# EAGLE library part ATMEGA328PB-AU (library ATMEGA328PB-AU)
ATmega Series 20 MHz 32 KB Flash 2 KB SRAM 8-Bit Microcontroller - TQFP-32
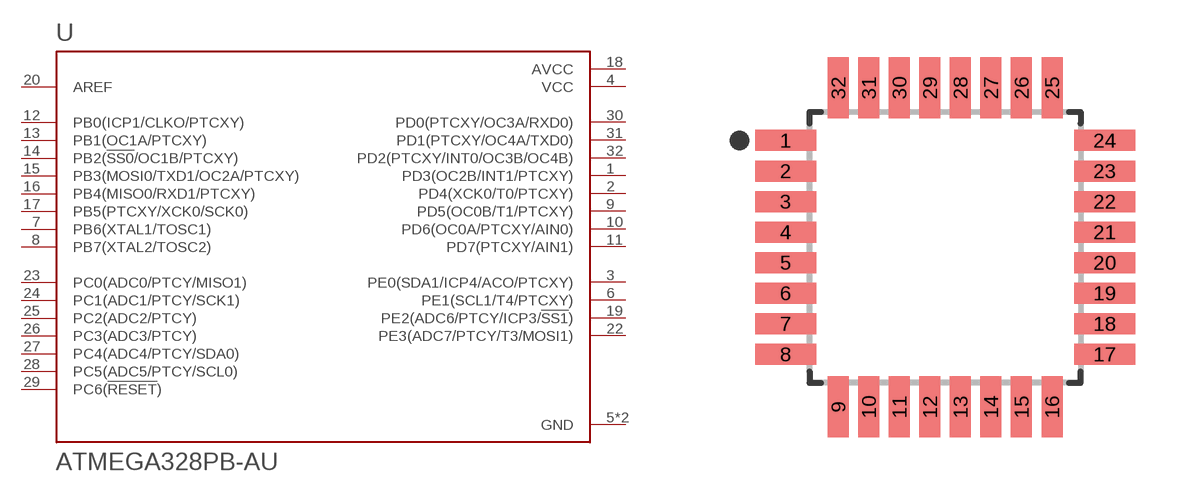
[diagram p0: symbol with the pads of QFP80P900X900X120-32N; footprint QFP80P900X900X120-32N]

Designator prefix U

## ATMEGA328PB-AU (Description: AVR microcontroller; EEPROM: 1024B; SRAM: 2kB; Flash: 32kB; TQFP32; Digi-Key_Part_Number: ATMEGA328PB-AU-ND; Digi-Key_Purchase_URL: https://www.digikey.com/product-detail/en/microchip-technology/ATMEGA328PB-AU/ATMEGA328PB-AU-ND/5638812?utm_source=snapeda&utm_medium=aggregator&utm_campaign=symbol; MF: Microchip; MP: ATMEGA328PB-AU; Package: TQFP-32 Microchip)  [QFP80P900X900X120-32N]
1  PD3(OC2B/INT1/PTCXY)
2  PD4(XCK0/T0/PTCXY)
3  PE0(SDA1/ICP4/ACO/PTCXY)
4  VCC  pwr
5  GND  pwr
6  PE1(SCL1/T4/PTCXY)
7  PB6(XTAL1/TOSC1)
8  PB7(XTAL2/TOSC2)
9  PD5(OC0B/T1/PTCXY)
10  PD6(OC0A/PTCXY/AIN0)
11  PD7(PTCXY/AIN1)
12  PB0(ICP1/CLKO/PTCXY)
13  PB1(OC1A/PTCXY)
14  PB2(!SS0!/OC1B/PTCXY)
15  PB3(MOSI0/TXD1/OC2A/PTCXY)
16  PB4(MISO0/RXD1/PTCXY)
17  PB5(PTCXY/XCK0/SCK0)
18  AVCC  pwr
19  PE2(ADC6/PTCY/ICP3/!SS1!)
20  AREF  in
21  GND  pwr
22  PE3(ADC7/PTCY/T3/MOSI1)
23  PC0(ADC0/PTCY/MISO1)
24  PC1(ADC1/PTCY/SCK1)
25  PC2(ADC2/PTCY)
26  PC3(ADC3/PTCY)
27  PC4(ADC4/PTCY/SDA0)
28  PC5(ADC5/PTCY/SCL0)
29  PC6(!RESET!)
30  PD0(PTCXY/OC3A/RXD0)
31  PD1(PTCXY/OC4A/TXD0)
32  PD2(PTCXY/INT0/OC3B/OC4B)

## Footprint QFP80P900X900X120-32N (pad centres in mm)
smd 1.6 x 0.55: 1 -4.18,2.8; 2 -4.18,2; 3 -4.18,1.2; 4 -4.18,0.4; 5 -4.18,-0.4; 6 -4.18,-1.2; 7 -4.18,-2; 8 -4.18,-2.8; 17 4.18,-2.8; 18 4.18,-2; 19 4.18,-1.2; 20 4.18,-0.4; 21 4.18,0.4; 22 4.18,1.2; 23 4.18,2; 24 4.18,2.8
smd 0.55 x 1.6: 9 -2.8,-4.18; 10 -2,-4.18; 11 -1.2,-4.18; 12 -0.4,-4.18; 13 0.4,-4.18; 14 1.2,-4.18; 15 2,-4.18; 16 2.8,-4.18; 25 2.8,4.18; 26 2,4.18; 27 1.2,4.18; 28 0.4,4.18; 29 -0.4,4.18; 30 -1.2,4.18; 31 -2,4.18; 32 -2.8,4.18